# Altium footprint library LGA.PcbLib: 1 footprints
Each footprint in its own frame and in the unit in brackets; x right, y up, seen from the top. Pads: shape width x height; smd on the part's side, far side on the other; paste and mask are expansions set on the pad; w line width, h text height; cw(c..) or ccw(c..) is an arc to the next point about the centre after c.
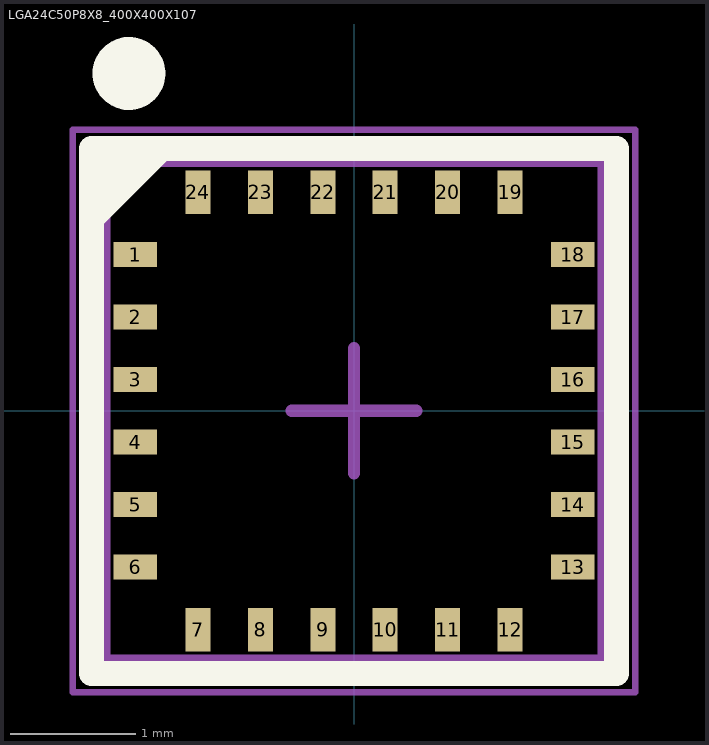
[diagram p0: the footprint, top view; thin cyan lines are the x and y axes]

## LGA24C50P8X8_400X400X107 [mm] "LGA, 24-Leads, Body 4,00x4,00mmx1,07mm, Pitch 0,50mm"
height 1.07
pads (24):
  rect 0.35x0.2 smd: 1(-1.75,1.25) 2(-1.75,0.75) 3(-1.75,0.25) 4(-1.75,-0.25) 5(-1.75,-0.75) 6(-1.75,-1.25) 13(1.75,-1.25) 14(1.75,-0.75) 15(1.75,-0.25) 16(1.75,0.25) 17(1.75,0.75) 18(1.75,1.25)
  rect 0.2x0.35 smd: 7(-1.25,-1.75) 8(-0.75,-1.75) 9(-0.25,-1.75) 10(0.25,-1.75) 11(0.75,-1.75) 12(1.25,-1.75) 19(1.25,1.75) 20(0.75,1.75) 21(0.25,1.75) 22(-0.25,1.75) 23(-0.75,1.75) 24(-1.25,1.75)
Top Overlay:
  circle w0.3: c-1.8,2.7 r0.141
  region: -1.5,2 -2,1.5 -2,2
  lines w0.2: -2.1,-2.1 2.1,-2.1 2.1,2.1 -2.1,2.1 -2.1,-2.1
Mechanical 13:
  lines w0.1: -2,-2 -2,2 2,2 2,-2 -2,-2
Mechanical 15:
  lines w0.05: -2.25,-2.25 -2.25,2.25 2.25,2.25 2.25,-2.25 -2.25,-2.25
  lines w0.1: -0.5,0 0.5,0 ; 0,-0.5 0,0.5
3D body "User Library-LGA-24.step": height 1.08, standoff 0, extent -2,-2 2,2